# EAGLE library part BGA725L6 (library Bulkhead Flight Computer)
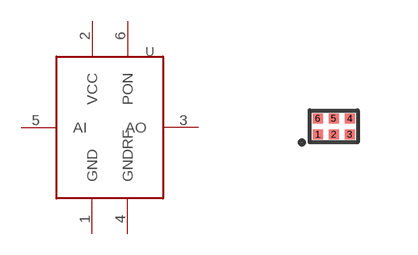
[diagram p8: symbol with the pads of BGA725L6; footprint BGA725L6]

Designator prefix U

## BGA725L6  [BGA725L6]
1  GND  pas
2  VCC  pwr
3  AO  pas
4  GNDRF  pas
5  AI  pas
6  PON  in

## Footprint BGA725L6 (pad centres in mm)
smd 0.25 x 0.25: 1 -0.4,-0.2; 2 0,-0.2; 3 0.4,-0.2; 4 0.4,0.2; 5 0,0.2; 6 -0.4,0.2